# EAGLE library part 691401710015 (library Wurth_Terminal_Blocks_Connectors_rev15d)
WR-TBL Terminal block - serie 401 5,0mm - Spring clamp/Screw less - horizontal entry - 15p Code:Con_TBL_Screwless_5.00_6914017100xxB_691401710015 <http://katalog.we-online.de/media/images/eican/Con_TBL_Screwless_5.00_6914017100xxB_pf2.jpg> Details see: http://katalog.we-online.de/en/em/691_401_710_0xx/691_401_710_015B?m Created 2014-12-22, aslant tao 2014 (C) Würth Elektronik
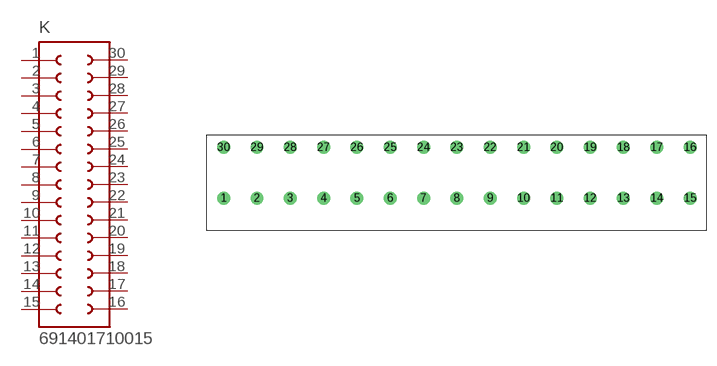
[diagram p244: symbol with the pads of 691401710015; footprint 691401710015]

Designator prefix K

## 691401710015  [691401710015]
1  1  pas
2  2  pas
3  3  pas
4  4  pas
5  5  pas
6  6  pas
7  7  pas
8  8  pas
9  9  pas
10  10  pas
11  11  pas
12  12  pas
13  13  pas
14  14  pas
15  15  pas
16  16  pas
17  17  pas
18  18  pas
19  19  pas
20  20  pas
21  21  pas
22  22  pas
23  23  pas
24  24  pas
25  25  pas
26  26  pas
27  27  pas
28  28  pas
29  29  pas
30  30  pas

## Footprint 691401710015 (pad centres in mm)
WR-TBL Serie 401 - 5.0mm Screwless Horizontal Entry - 2 mm2 Wires, 15 Pins
drill 1.3: 1 -45,0; 2 -40,0; 3 -35,0; 4 -30,0; 5 -25,0; 6 -20,0; 7 -15,0; 8 -10,0; 9 -5,0; 10 0,0; 11 5,0; 12 10,0; 13 15,0; 14 20,0; 15 25,0; 16 25,7.62; 17 20,7.62; 18 15,7.62; 19 10,7.62; 20 5,7.62; 21 0,7.62; 22 -5,7.62; 23 -10,7.62; 24 -15,7.62; 25 -20,7.62; 26 -25,7.62; 27 -30,7.62; 28 -35,7.62; 29 -40,7.62; 30 -45,7.62